# Altium footprint library SparkFun-Displays.PCBLIB: 12 footprints
Each footprint in its own frame and in the unit in brackets; x right, y up, seen from the top. Pads: shape width x height; smd on the part's side, far side on the other; paste and mask are expansions set on the pad; w line width, h text height; cw(c..) or ccw(c..) is an arc to the next point about the centre after c.
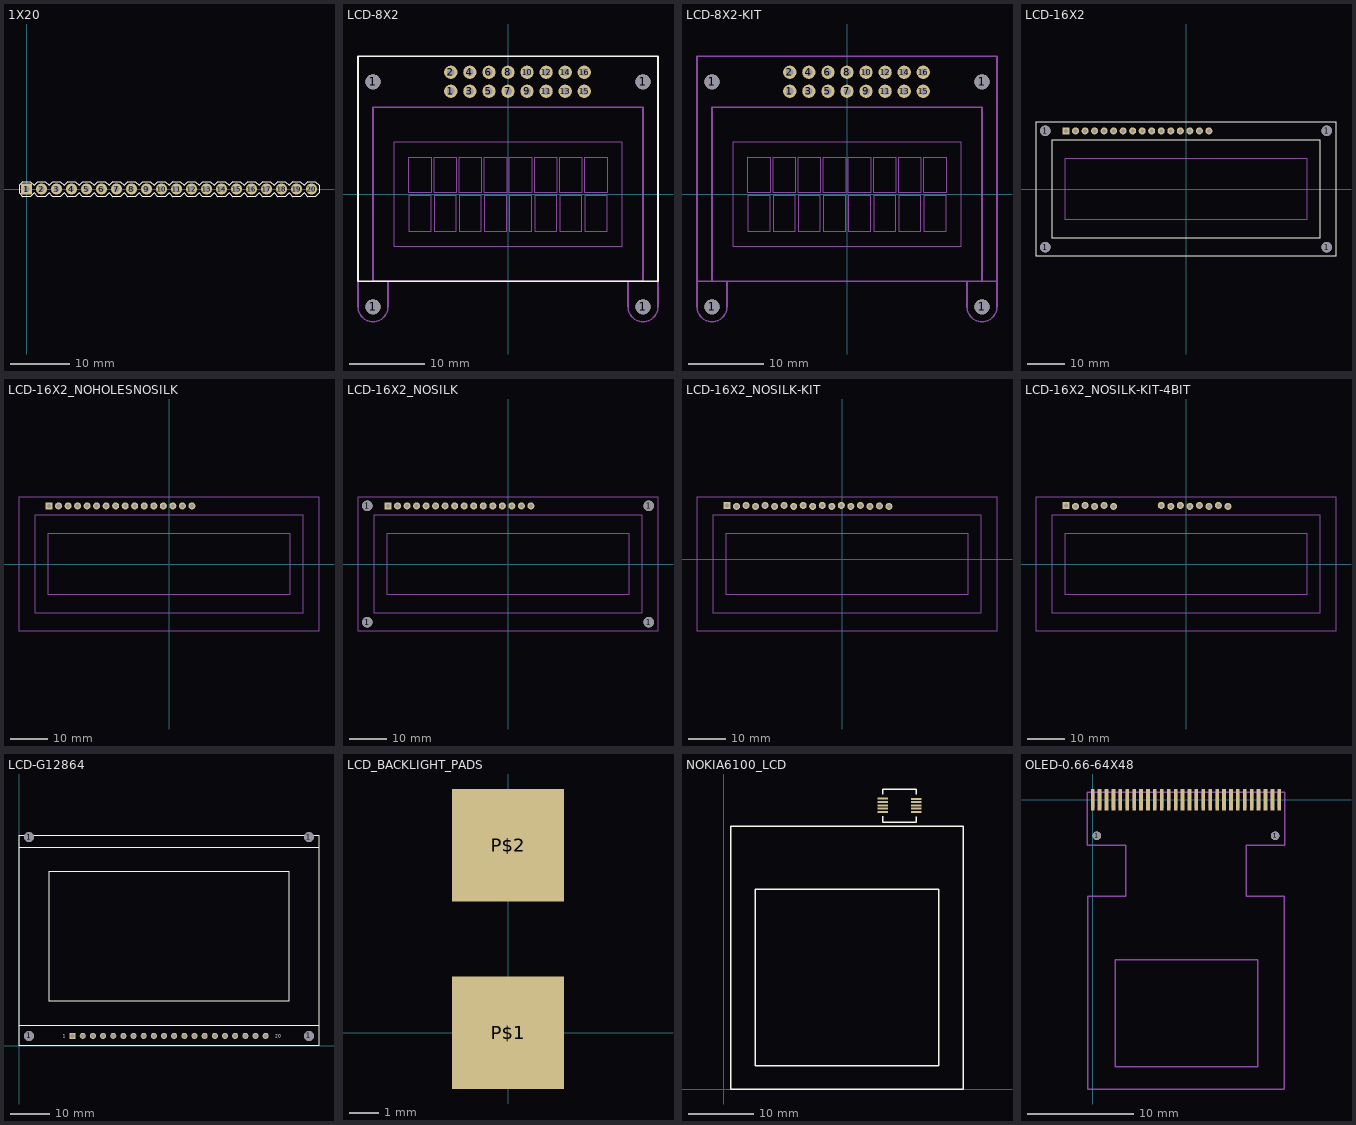
[diagram p0: the footprints below, top view; thin cyan lines are the x and y axes]

## 1X20 [mil]
pads (20):
  rect 74x74 hole 40: 1(0,0)
  round 74 hole 40: 2(100,0) 3(200,0) 4(300,0) 5(400,0) 6(500,0) 7(600,0) 8(700,0) 9(800,0) 10(900,0) 11(1000,0) 12(1100,0) 13(1200,0) 14(1300,0) 15(1400,0) 16(1500,0) 17(1600,0) 18(1700,0) 19(1800,0) 20(1900,0)
Top Overlay:
  lines w8: -50,-25 -50,25 -25,50 25,50 50,25 75,50 125,50 150,25 175,50 225,50 250,25 275,50 325,50 350,25 375,50 425,50 450,25 475,50 525,50 550,25 575,50 625,50 650,25 675,50 725,50 750,25 775,50 825,50 850,25 875,50 925,50 950,25 975,50 1025,50 1050,25 1075,50 1125,50 1150,25 1175,50 1225,50 1250,25 1275,50 1325,50 1350,25 1375,50 1425,50 1450,25 1475,50 1525,50 1550,25 1575,50 1625,50 1650,25 1675,50 1725,50 1750,25 1775,50 1825,50 1850,25 1875,50 1925,50 1950,25 1950,-25 1925,-50 1875,-50 1850,-25 1825,-50 1775,-50 1750,-25 1725,-50 1675,-50 1650,-25 1625,-50 1575,-50 1550,-25 1525,-50 1475,-50 1450,-25 1425,-50 1375,-50 1350,-25 1325,-50 1275,-50 1250,-25 1225,-50 1175,-50 1150,-25 1125,-50 1075,-50 1050,-25 1025,-50 975,-50 950,-25 925,-50 875,-50 850,-25 825,-50 775,-50 750,-25 725,-50 675,-50 650,-25 625,-50 575,-50 550,-25 525,-50 475,-50 450,-25 425,-50 375,-50 350,-25 325,-50 275,-50 250,-25 225,-50 175,-50 150,-25 125,-50 75,-50 50,-25 25,-50 -25,-50 -50,-25
Mechanical 16:
  rectangle: 590,-10 610,10
  rectangle: 490,-10 510,10
  rectangle: 390,-10 410,10
  rectangle: 290,-10 310,10
  rectangle: 190,-10 210,10
  rectangle: 90,-10 110,10
  rectangle: -10,-10 10,10
  rectangle: 1290,-10 1310,10
  rectangle: 1190,-10 1210,10
  rectangle: 1090,-10 1110,10
  rectangle: 990,-10 1010,10
  rectangle: 890,-10 910,10
  rectangle: 790,-10 810,10
  rectangle: 690,-10 710,10
  rectangle: 1390,-10 1410,10
  rectangle: 1490,-10 1510,10
  rectangle: 1590,-10 1610,10
  rectangle: 1690,-10 1710,10
  rectangle: 1790,-10 1810,10
  rectangle: 1890,-10 1910,10

## LCD-8X2 [mil]
pads (20):
  round 78.74 hole 78.74: 1(-708.66,-590.55) 1(-708.66,590.55) 1(708.66,-590.55) 1(708.66,590.55)
  round 70 hole 39.37: 1(-300,540.55) 2(-300,640.55) 3(-200,540.55) 4(-200,640.55) 5(-100,540.55) 6(-100,640.55) 7(0,540.55) 8(0,640.55) 9(100,540.55) 10(100,640.55) 11(200,540.55) 12(200,640.55) 13(300,540.55) 14(300,640.55) 15(400,540.55) 16(400,640.55)
Top Overlay:
  lines w8: -787.4,-456.69 -787.4,724.41 787.4,724.41 787.4,-456.69 -787.4,-456.69
Mechanical 16:
  lines w5: -598.43,-273.62 -598.43,273.62 598.43,273.62 598.43,-273.62 -598.43,-273.62 ; -519.69,-194.88 -519.69,-7.87 -403.54,-7.87 -403.54,-194.88 -519.69,-194.88 ; -519.69,7.87 -519.69,194.88 -403.54,194.88 -403.54,7.87 -519.69,7.87 ; -387.8,-194.88 -387.8,-7.87 -271.65,-7.87 -271.65,-194.88 -387.8,-194.88 ; -387.8,7.87 -387.8,194.88 -271.65,194.88 -271.65,7.87 -387.8,7.87 ; -255.91,-194.88 -255.91,-7.87 -139.76,-7.87 -139.76,-194.88 -255.91,-194.88 ; -255.91,7.87 -255.91,194.88 -139.76,194.88 -139.76,7.87 -255.91,7.87 ; -124.02,-194.88 -124.02,-7.87 -7.87,-7.87 -7.87,-194.88 -124.02,-194.88 ; -124.02,7.87 -124.02,194.88 -7.87,194.88 -7.87,7.87 -124.02,7.87 ; 7.87,-194.88 7.87,-7.87 124.02,-7.87 124.02,-194.88 7.87,-194.88 ; 7.87,7.87 7.87,194.88 124.02,194.88 124.02,7.87 7.87,7.87 ; 139.76,-194.88 139.76,-7.87 255.91,-7.87 255.91,-194.88 139.76,-194.88 ; 139.76,7.87 139.76,194.88 255.91,194.88 255.91,7.87 139.76,7.87 ; 271.65,-194.88 271.65,-7.87 387.8,-7.87 387.8,-194.88 271.65,-194.88 ; 271.65,7.87 271.65,194.88 387.8,194.88 387.8,7.87 271.65,7.87 ; 403.54,-194.88 403.54,-7.87 519.69,-7.87 519.69,-194.88 403.54,-194.88 ; 403.54,7.87 403.54,194.88 519.69,194.88 519.69,7.87 403.54,7.87
  lines w8: -787.4,-456.69 -787.4,-590.55 ccw(c-708.66,-590.55) -629.92,-590.55 -629.92,-456.69 ; 629.92,-456.69 629.92,-590.55 ccw(c708.66,-590.55) 787.4,-590.55 787.4,-456.69 ; -708.66,-456.69 -708.66,456.69 708.66,456.69 708.66,-456.69 -708.66,-456.69

## LCD-8X2-KIT [mil]
pads (20):
  round 78.74 hole 78.74: 1(-708.66,-590.55) 1(-708.66,590.55) 1(708.66,-590.55) 1(708.66,590.55)
  round 70 hole 39.37: 1(-300,540.55) 2(-300,640.55) 3(-200,540.55) 4(-200,640.55) 5(-100,540.55) 6(-100,640.55) 7(0,540.55) 8(0,640.55) 9(100,540.55) 10(100,640.55) 11(200,540.55) 12(200,640.55) 13(300,540.55) 14(300,640.55) 15(400,540.55) 16(400,640.55)
Top Solder:
  region: 0,0 10,0 10,10 0,10
  region: 0,0 10,0 10,10 0,10
  region: 0,0 10,0 10,10 0,10
  region: 0,0 10,0 10,10 0,10
  region: 0,0 10,0 10,10 0,10
  region: 0,0 10,0 10,10 0,10
  region: 0,0 10,0 10,10 0,10
  region: 0,0 10,0 10,10 0,10
  region: 0,0 10,0 10,10 0,10
  region: 0,0 10,0 10,10 0,10
  region: 0,0 10,0 10,10 0,10
  region: 0,0 10,0 10,10 0,10
  region: 0,0 10,0 10,10 0,10
  region: 0,0 10,0 10,10 0,10
  region: 0,0 10,0 10,10 0,10
  region: 0,0 10,0 10,10 0,10
Bottom Solder:
  region: 0,0 10,0 10,10 0,10
  region: 0,0 10,0 10,10 0,10
  region: 0,0 10,0 10,10 0,10
  region: 0,0 10,0 10,10 0,10
  region: 0,0 10,0 10,10 0,10
  region: 0,0 10,0 10,10 0,10
  region: 0,0 10,0 10,10 0,10
  region: 0,0 10,0 10,10 0,10
  region: 0,0 10,0 10,10 0,10
  region: 0,0 10,0 10,10 0,10
  region: 0,0 10,0 10,10 0,10
  region: 0,0 10,0 10,10 0,10
  region: 0,0 10,0 10,10 0,10
  region: 0,0 10,0 10,10 0,10
  region: 0,0 10,0 10,10 0,10
  region: 0,0 10,0 10,10 0,10
Mechanical 16:
  lines w5: -598.43,-273.62 -598.43,273.62 598.43,273.62 598.43,-273.62 -598.43,-273.62 ; -519.69,-194.88 -519.69,-7.87 -403.54,-7.87 -403.54,-194.88 -519.69,-194.88 ; -519.69,7.87 -519.69,194.88 -403.54,194.88 -403.54,7.87 -519.69,7.87 ; -387.8,-194.88 -387.8,-7.87 -271.65,-7.87 -271.65,-194.88 -387.8,-194.88 ; -387.8,7.87 -387.8,194.88 -271.65,194.88 -271.65,7.87 -387.8,7.87 ; -255.91,-194.88 -255.91,-7.87 -139.76,-7.87 -139.76,-194.88 -255.91,-194.88 ; -255.91,7.87 -255.91,194.88 -139.76,194.88 -139.76,7.87 -255.91,7.87 ; -124.02,-194.88 -124.02,-7.87 -7.87,-7.87 -7.87,-194.88 -124.02,-194.88 ; -124.02,7.87 -124.02,194.88 -7.87,194.88 -7.87,7.87 -124.02,7.87 ; 7.87,-194.88 7.87,-7.87 124.02,-7.87 124.02,-194.88 7.87,-194.88 ; 7.87,7.87 7.87,194.88 124.02,194.88 124.02,7.87 7.87,7.87 ; 139.76,-194.88 139.76,-7.87 255.91,-7.87 255.91,-194.88 139.76,-194.88 ; 139.76,7.87 139.76,194.88 255.91,194.88 255.91,7.87 139.76,7.87 ; 271.65,-194.88 271.65,-7.87 387.8,-7.87 387.8,-194.88 271.65,-194.88 ; 271.65,7.87 271.65,194.88 387.8,194.88 387.8,7.87 271.65,7.87 ; 403.54,-194.88 403.54,-7.87 519.69,-7.87 519.69,-194.88 403.54,-194.88 ; 403.54,7.87 403.54,194.88 519.69,194.88 519.69,7.87 403.54,7.87
  lines w8: -629.92,-456.69 -629.92,-590.55 cw(c-708.66,-590.55) -787.4,-590.55 -787.4,-456.69 ; 629.92,-456.69 629.92,-590.55 ccw(c708.66,-590.55) 787.4,-590.55 787.4,-456.69 ; -787.4,-456.69 -787.4,724.41 787.4,724.41 787.4,-456.69 ; -787.4,-456.69 787.4,-456.69 ; -708.66,-456.69 -708.66,456.69 708.66,456.69 708.66,-456.69 -708.66,-456.69

## LCD-16X2 [mil]
pads (20):
  round 110.24 hole 110.24: 1(-1476.38,-610.24) 1(-1476.38,610.24) 1(1476.38,-610.24) 1(1476.38,610.24)
  rect 74x74 hole 40: 1(-1259.84,610.24)
  round 74 hole 40: 2(-1159.84,610.24) 3(-1059.84,610.24) 4(-959.84,610.24) 5(-859.84,610.24) 6(-759.84,610.24) 7(-659.84,610.24) 8(-559.84,610.24) 9(-459.84,610.24) 10(-359.84,610.24) 11(-259.84,610.24) 12(-159.84,610.24) 13(-59.84,610.24) 14(40.16,610.24) 15(140.16,610.24) 16(240.16,610.24)
Top Overlay:
  lines w8: -1574.8,-708.66 1574.8,-708.66 1574.8,708.66 -1574.8,708.66 -1574.8,-708.66 ; -1403.54,-517.72 1403.54,-517.72 1403.54,517.72 -1403.54,517.72 -1403.54,-517.72
Mechanical 12:
  lines w8: -1269.69,-322.83 1269.69,-322.83 1269.69,322.83 -1269.69,322.83 -1269.69,-322.83
Mechanical 16:
  text "1" at -1350,600 h62

## LCD-16X2_NOHOLESNOSILK [mil]
pads (16):
  rect 74x74 hole 40: 1(-1259.84,610.24)
  round 74 hole 40: 2(-1159.84,610.24) 3(-1059.84,610.24) 4(-959.84,610.24) 5(-859.84,610.24) 6(-759.84,610.24) 7(-659.84,610.24) 8(-559.84,610.24) 9(-459.84,610.24) 10(-359.84,610.24) 11(-259.84,610.24) 12(-159.84,610.24) 13(-59.84,610.24) 14(40.16,610.24) 15(140.16,610.24) 16(240.16,610.24)
Mechanical 16:
  lines w8: -1574.8,-708.66 1574.8,-708.66 1574.8,708.66 -1574.8,708.66 -1574.8,-708.66 ; -1403.54,-517.72 1403.54,-517.72 1403.54,517.72 -1403.54,517.72 -1403.54,-517.72 ; -1269.69,-322.83 1269.69,-322.83 1269.69,322.83 -1269.69,322.83 -1269.69,-322.83
  text "1" at -1350,600 h62

## LCD-16X2_NOSILK [mil]
pads (20):
  round 110.24 hole 110.24: 1(-1476.38,-610.24) 1(-1476.38,610.24) 1(1476.38,-610.24) 1(1476.38,610.24)
  rect 74x74 hole 40: 1(-1259.84,610.24)
  round 74 hole 40: 2(-1159.84,610.24) 3(-1059.84,610.24) 4(-959.84,610.24) 5(-859.84,610.24) 6(-759.84,610.24) 7(-659.84,610.24) 8(-559.84,610.24) 9(-459.84,610.24) 10(-359.84,610.24) 11(-259.84,610.24) 12(-159.84,610.24) 13(-59.84,610.24) 14(40.16,610.24) 15(140.16,610.24) 16(240.16,610.24)
Mechanical 16:
  lines w8: -1574.8,-708.66 1574.8,-708.66 1574.8,708.66 -1574.8,708.66 -1574.8,-708.66 ; -1403.54,-517.72 1403.54,-517.72 1403.54,517.72 -1403.54,517.72 -1403.54,-517.72 ; -1269.69,-322.83 1269.69,-322.83 1269.69,322.83 -1269.69,322.83 -1269.69,-322.83
  text "1" at -1350,600 h62

## LCD-16X2_NOSILK-KIT [mil]
pads (18):
  rect 74x74 hole 40: 1(-1209.84,565.24)
  round 74 hole 40: 2(-1109.84,555.24) 3(-1009.84,565.24) 4(-909.84,555.24) 5(-809.84,565.24) 6(-709.84,555.24) 7(-609.84,565.24) 8(-509.84,555.24) 9(-409.84,565.24) 10(-309.84,555.24) 11(-209.84,565.24) 12(-109.84,555.24) 13(-9.84,565.24) 14(90.16,555.24) 15(190.16,565.24) 16(290.16,555.24) 17(390.16,560.24) 18(490.16,555.24)
Mechanical 16:
  lines w8: -1524.8,-758.66 1624.8,-758.66 1624.8,658.66 -1524.8,658.66 -1524.8,-758.66 ; -1353.54,-567.72 1453.54,-567.72 1453.54,467.72 -1353.54,467.72 -1353.54,-567.72 ; -1219.69,-372.83 1319.69,-372.83 1319.69,272.83 -1219.69,272.83 -1219.69,-372.83
  text "1" at -1300,550 h62

## LCD-16X2_NOSILK-KIT-4BIT [mil]
pads (14):
  rect 74x74 hole 40: 1(-1259.84,615.24)
  round 74 hole 40: 2(-1159.84,605.24) 3(-1059.84,615.24) 4(-959.84,605.24) 5(-859.84,615.24) 6(-759.84,605.24) 11(-259.84,615.24) 12(-159.84,605.24) 13(-59.84,615.24) 14(40.16,605.24) 15(140.16,615.24) 16(240.16,605.24) 17(340.16,615.24) 18(440.16,605.24)
Mechanical 16:
  lines w8: -1574.8,-708.66 1574.8,-708.66 1574.8,708.66 -1574.8,708.66 -1574.8,-708.66 ; -1403.54,-517.72 1403.54,-517.72 1403.54,517.72 -1403.54,517.72 -1403.54,-517.72 ; -1269.69,-322.83 1269.69,-322.83 1269.69,322.83 -1269.69,322.83 -1269.69,-322.83
  text "1" at -1350,600 h62

## LCD-G12864 [mil]
pads (24):
  round 98.43 hole 98.43: 1(98.43,98.43) 1(98.43,2055.12) 1(2854.33,98.43) 1(2854.33,2055.12)
  rect 60x60 hole 40: 1(527.56,98.43)
  round 60 hole 40: 2(627.56,98.43) 3(727.56,98.43) 4(827.56,98.43) 5(927.56,98.43) 6(1027.56,98.43) 7(1127.56,98.43) 8(1227.56,98.43) 9(1327.56,98.43) 10(1427.56,98.43) 11(1527.56,98.43) 12(1627.56,98.43) 13(1727.56,98.43) 14(1827.56,98.43) 15(1927.56,98.43) 16(2027.56,98.43) 17(2127.56,98.43) 18(2227.56,98.43) 19(2327.56,98.43) 20(2427.56,98.43)
Top Overlay:
  lines w8: 0,196.85 0,0 2952.76,0 2952.76,196.85 ; 0,196.85 0,1956.69 ; 0,196.85 2952.76,196.85 ; 0,1956.69 0,2074.8 2952.76,2074.8 2952.76,1956.69 ; 0,1956.69 2952.76,1956.69 ; 2952.76,196.85 2952.76,1956.69 ; 295.28,437.01 295.28,1720.47 2657.48,1720.47 2657.48,437.01 295.28,437.01
  text "1" at 433.07,78.74 h34
  text "20" at 2519.69,78.74 h34

## LCD_BACKLIGHT_PADS [mil]
pads (2):
  rect 150x150 smd: P$1(0,0) P$2(0,250)

## NOKIA6100_LCD [mil]
pads (10):
  rect 62.99x11.81 smd: 1(954.94,1744.53) 2(954.94,1724.84) 3(954.94,1705.16) 4(954.94,1685.47) 5(954.94,1665.79) 6(1157.06,1665.47) 7(1157.06,1685.16) 8(1157.06,1704.84) 9(1157.06,1724.53) 10(1157.06,1744.21)
Top Overlay:
  lines w5: 1140,1200 1150,1200
  lines w8: 954.72,1603.15 954.72,1638.19 ; 955,1603 1155,1603 ; 955,1803 1155,1803 ; 955.12,1771.65 955.12,1802.76 ; 1155.12,1771.65 1155.12,1802.36 ; 1155.51,1603.15 1155.51,1637.4 ; 40,0 40,1580 1440,1580 1440,0 40,0 ; 190,140 190,1200 1150,1200 1290,1200 1290,140 190,140

## OLED-0.66-64X48 [mm]
pads (30):
  rect 0.35x2 smd: 1(0,0) 2(0.65,0) 3(1.3,0) 4(1.95,0) 5(2.6,0) 6(3.25,0) 7(3.9,0) 8(4.55,0) 9(5.2,0) 10(5.85,0) 11(6.5,0) 12(7.15,0) 13(7.8,0) 14(8.45,0) 15(9.1,0) 16(9.75,0) 17(10.4,0) 18(11.05,0) 19(11.7,0) 20(12.35,0) 21(13,0) 22(13.65,0) 23(14.3,0) 24(14.95,0) 25(15.6,0) 26(16.25,0) 27(16.9,0) 28(17.55,0)
  round 0.8 hole 0.8: 1(0.4,-3.4) 1(17.15,-3.4)
Mechanical 14:
  lines w0.127: -0.5,-4.3 -0.5,0.7 18.05,0.7 18.05,-4.3 14.46,-4.3 14.46,-9.1 18.005,-9.1 18.005,-27.2 -0.455,-27.2 -0.455,-9.1 3.09,-9.1 3.09,-4.3 -0.5,-4.3
Mechanical 16:
  region: 17.71,0.7 17.39,0.7 17.39,-0.8 17.71,-0.8
  region: 17.06,0.7 16.74,0.7 16.74,-0.8 17.06,-0.8
  region: 16.41,0.7 16.09,0.7 16.09,-0.8 16.41,-0.8
  region: 15.76,0.7 15.44,0.7 15.44,-0.8 15.76,-0.8
  region: 15.11,0.7 14.79,0.7 14.79,-0.8 15.11,-0.8
  region: 14.46,0.7 14.14,0.7 14.14,-0.8 14.46,-0.8
  region: 13.81,0.7 13.49,0.7 13.49,-0.8 13.81,-0.8
  region: 13.16,0.7 12.84,0.7 12.84,-0.8 13.16,-0.8
  region: 12.51,0.7 12.19,0.7 12.19,-0.8 12.51,-0.8
  region: 11.86,0.7 11.54,0.7 11.54,-0.8 11.86,-0.8
  region: 11.21,0.7 10.89,0.7 10.89,-0.8 11.21,-0.8
  region: 10.56,0.7 10.24,0.7 10.24,-0.8 10.56,-0.8
  region: 9.91,0.7 9.59,0.7 9.59,-0.8 9.91,-0.8
  region: 9.26,0.7 8.94,0.7 8.94,-0.8 9.26,-0.8
  region: 8.61,0.7 8.29,0.7 8.29,-0.8 8.61,-0.8
  region: 7.96,0.7 7.64,0.7 7.64,-0.8 7.96,-0.8
  region: 7.31,0.7 6.99,0.7 6.99,-0.8 7.31,-0.8
  region: 6.66,0.7 6.34,0.7 6.34,-0.8 6.66,-0.8
  region: 6.01,0.7 5.69,0.7 5.69,-0.8 6.01,-0.8
  region: 5.36,0.7 5.04,0.7 5.04,-0.8 5.36,-0.8
  region: 4.71,0.7 4.39,0.7 4.39,-0.8 4.71,-0.8
  region: 4.06,0.7 3.74,0.7 3.74,-0.8 4.06,-0.8
  region: 3.41,0.7 3.09,0.7 3.09,-0.8 3.41,-0.8
  region: 2.76,0.7 2.44,0.7 2.44,-0.8 2.76,-0.8
  region: 2.11,0.7 1.79,0.7 1.79,-0.8 2.11,-0.8
  region: 1.46,0.7 1.14,0.7 1.14,-0.8 1.46,-0.8
  region: 0.81,0.7 0.49,0.7 0.49,-0.8 0.81,-0.8
  region: 0.16,0.7 -0.16,0.7 -0.16,-0.8 0.16,-0.8
Mechanical 30:
  lines w0.127: 2.11,-25.1 2.11,-15.04 15.53,-15.04 15.53,-25.1 2.11,-25.1
  text "Active Area 0.66\"" at 8.82,-21.452 h0.69
  text "64 x 48 Pixels" at 8.82,-20.761 h0.69
  text "(Facing Bottom)" at 8.82,-20.07 h0.69